# Altium schematic symbol library USB_C.Schlib: 1 symbol
Pins are listed as number, name and electrical type; pins without a type are passive.

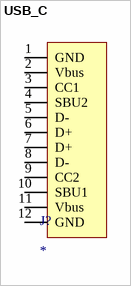
[diagram p0: symbol USB_C]

## USB_C
designator J?
pins: 1 GND, 2 Vbus, 3 CC1, 4 SBU2, 5 D-, 6 D+, 7 D+, 8 D-, 9 CC2, 10 SBU1, 11 Vbus, 12 GND